# Altium schematic symbol library kmilo17pet-NSC_MiscPower.SchLib: 1552 symbols (part 20 of 43)
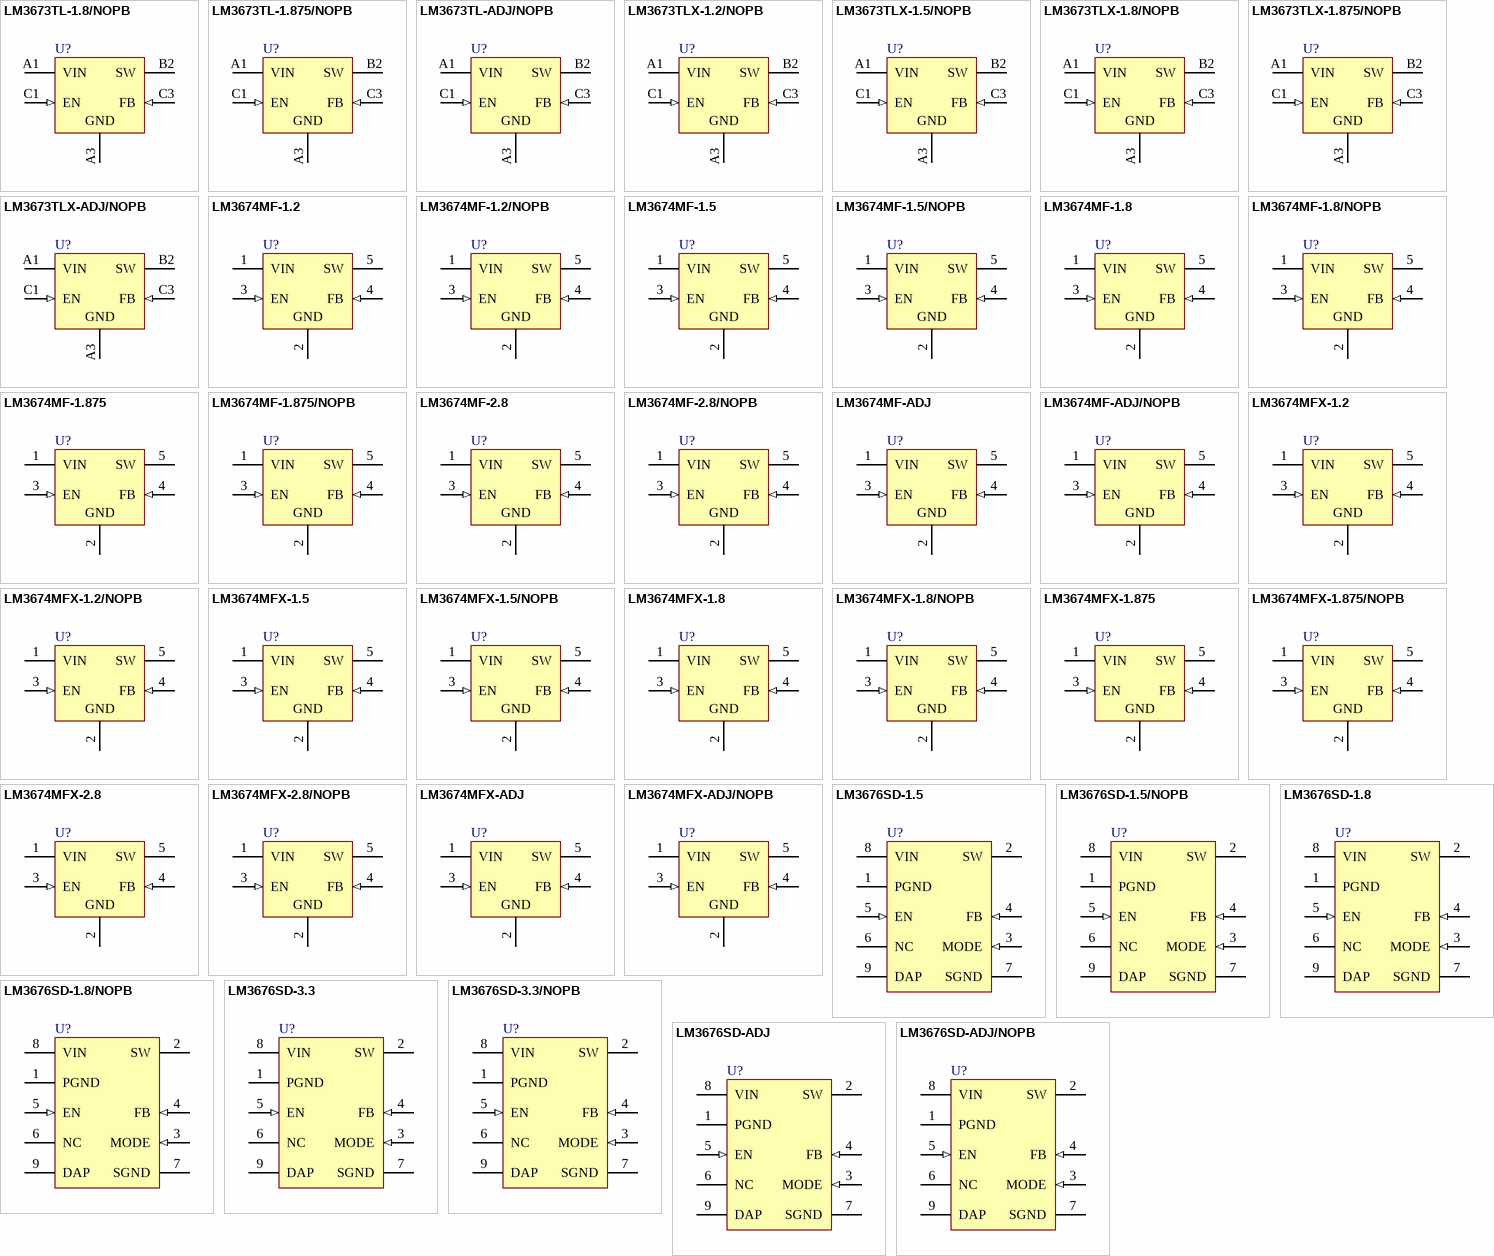
[diagram p76: symbols LM3673TL-1.8/NOPB to LM3676SD-ADJ/NOPB]

## LM3676SD-3.3/NOPB
designator U?
2MHz, 600mA Step-Down DC-DC Converter with Mode Control, 8-pin LLP, Pb-Free; PartNumber: LM3676SD-3.3/NOPB; Manufacturer: National Semiconductor; PackageTopMarking: ZXYTT*S010B; PowerWise: N; CompType: MiscPower; High-Reliability: Y; DatasheetVersion: Dec-2006; PackageVersion: revA, Aug-2003; PackageReference: SDA08A; PackageDescription: LLP, Plastic, Dual, 3 x 3 x 0.8mm Body, 8 Lead, 0.5mm Pitch, No Pullback; RoHS: Y; PinCount: 8; ComponentLink1Description: Manufacturer URL; ComponentLink1URL: http://www.national.com/; ComponentLink2Description: LM3676 Datasheet; ComponentLink2URL: http://www.national.com/ds/LM/LM3676.pdf; ComponentLink3Description: LM3676 Web Page; ComponentLink3URL: http://www.national.com/pf/LM/LM3676.html; ComponentLink4Description: SDA08A Package Page; ComponentLink4URL: http://www.national.com/packaging/folders/sda08a.html
footprint SDA08A (SON, 8-Leads, Body 3x3mm, Pitch 0.5mm, NSC Recommended)
pins: 1 PGND (power), 2 SW (power), 3 MODE (in), 4 FB (in), 5 EN (in), 6 NC, 7 SGND (power), 8 VIN (power), 9 DAP (power)

## LM3676SD-ADJ
designator U?
2MHz, 600mA Step-Down DC-DC Converter with Mode Control, 8-pin LLP; PartNumber: LM3676SD-ADJ; Manufacturer: National Semiconductor; PackageTopMarking: ZXYTT*S008B; PowerWise: N; CompType: MiscPower; High-Reliability: Y; DatasheetVersion: Dec-2006; PackageVersion: revA, Aug-2003; PackageReference: SDA08A; PackageDescription: LLP, Plastic, Dual, 3 x 3 x 0.8mm Body, 8 Lead, 0.5mm Pitch, No Pullback; RoHS: N; PinCount: 8; ComponentLink1Description: Manufacturer URL; ComponentLink1URL: http://www.national.com/; ComponentLink2Description: LM3676 Datasheet; ComponentLink2URL: http://www.national.com/ds/LM/LM3676.pdf; ComponentLink3Description: LM3676 Web Page; ComponentLink3URL: http://www.national.com/pf/LM/LM3676.html; ComponentLink4Description: SDA08A Package Page; ComponentLink4URL: http://www.national.com/packaging/folders/sda08a.html
footprint SDA08A (SON, 8-Leads, Body 3x3mm, Pitch 0.5mm, NSC Recommended)
pins: 1 PGND (power), 2 SW (power), 3 MODE (in), 4 FB (in), 5 EN (in), 6 NC, 7 SGND (power), 8 VIN (power), 9 DAP (power)

## LM3676SD-ADJ/NOPB
designator U?
2MHz, 600mA Step-Down DC-DC Converter with Mode Control, 8-pin LLP, Pb-Free; PartNumber: LM3676SD-ADJ/NOPB; Manufacturer: National Semiconductor; PackageTopMarking: ZXYTT*S008B; PowerWise: N; CompType: MiscPower; High-Reliability: Y; DatasheetVersion: Dec-2006; PackageVersion: revA, Aug-2003; PackageReference: SDA08A; PackageDescription: LLP, Plastic, Dual, 3 x 3 x 0.8mm Body, 8 Lead, 0.5mm Pitch, No Pullback; RoHS: Y; PinCount: 8; ComponentLink1Description: Manufacturer URL; ComponentLink1URL: http://www.national.com/; ComponentLink2Description: LM3676 Datasheet; ComponentLink2URL: http://www.national.com/ds/LM/LM3676.pdf; ComponentLink3Description: LM3676 Web Page; ComponentLink3URL: http://www.national.com/pf/LM/LM3676.html; ComponentLink4Description: SDA08A Package Page; ComponentLink4URL: http://www.national.com/packaging/folders/sda08a.html
footprint SDA08A (SON, 8-Leads, Body 3x3mm, Pitch 0.5mm, NSC Recommended)
pins: 1 PGND (power), 2 SW (power), 3 MODE (in), 4 FB (in), 5 EN (in), 6 NC, 7 SGND (power), 8 VIN (power), 9 DAP (power)

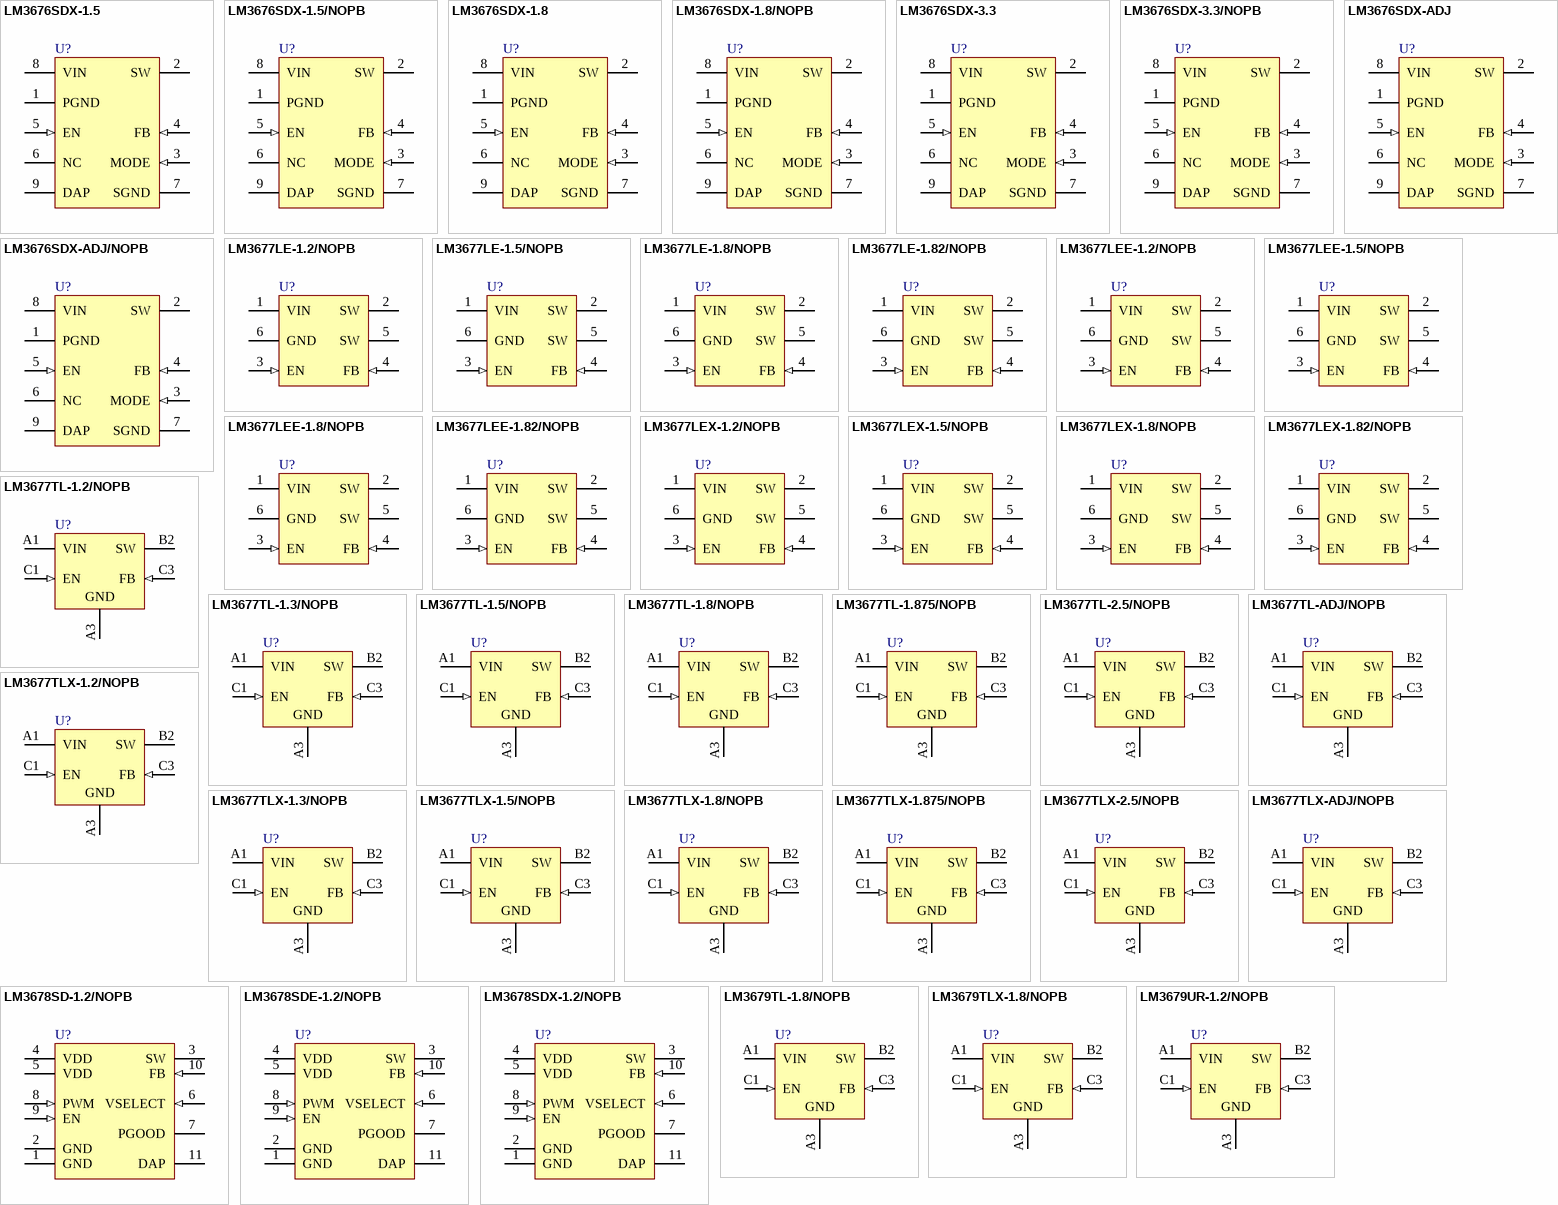
[diagram p22: symbols LM3676SDX-1.5 to LM3679UR-1.2/NOPB]

## LM3676SDX-1.5
designator U?
2MHz, 600mA Step-Down DC-DC Converter with Mode Control, 8-pin LLP; PartNumber: LM3676SDX-1.5; Manufacturer: National Semiconductor; PackageTopMarking: ZXYTT*S007B; PowerWise: N; CompType: MiscPower; High-Reliability: Y; DatasheetVersion: Dec-2006; PackageVersion: revA, Aug-2003; PackageReference: SDA08A; PackageDescription: LLP, Plastic, Dual, 3 x 3 x 0.8mm Body, 8 Lead, 0.5mm Pitch, No Pullback; RoHS: N; PinCount: 8; ComponentLink1Description: Manufacturer URL; ComponentLink1URL: http://www.national.com/; ComponentLink2Description: LM3676 Datasheet; ComponentLink2URL: http://www.national.com/ds/LM/LM3676.pdf; ComponentLink3Description: LM3676 Web Page; ComponentLink3URL: http://www.national.com/pf/LM/LM3676.html; ComponentLink4Description: SDA08A Package Page; ComponentLink4URL: http://www.national.com/packaging/folders/sda08a.html
footprint SDA08A (SON, 8-Leads, Body 3x3mm, Pitch 0.5mm, NSC Recommended)
pins: 1 PGND (power), 2 SW (power), 3 MODE (in), 4 FB (in), 5 EN (in), 6 NC, 7 SGND (power), 8 VIN (power), 9 DAP (power)

## LM3676SDX-1.5/NOPB
designator U?
2MHz, 600mA Step-Down DC-DC Converter with Mode Control, 8-pin LLP, Pb-Free; PartNumber: LM3676SDX-1.5/NOPB; Manufacturer: National Semiconductor; PackageTopMarking: ZXYTT*S007B; PowerWise: N; CompType: MiscPower; High-Reliability: Y; DatasheetVersion: Dec-2006; PackageVersion: revA, Aug-2003; PackageReference: SDA08A; PackageDescription: LLP, Plastic, Dual, 3 x 3 x 0.8mm Body, 8 Lead, 0.5mm Pitch, No Pullback; RoHS: Y; PinCount: 8; ComponentLink1Description: Manufacturer URL; ComponentLink1URL: http://www.national.com/; ComponentLink2Description: LM3676 Datasheet; ComponentLink2URL: http://www.national.com/ds/LM/LM3676.pdf; ComponentLink3Description: LM3676 Web Page; ComponentLink3URL: http://www.national.com/pf/LM/LM3676.html; ComponentLink4Description: SDA08A Package Page; ComponentLink4URL: http://www.national.com/packaging/folders/sda08a.html
footprint SDA08A (SON, 8-Leads, Body 3x3mm, Pitch 0.5mm, NSC Recommended)
pins: 1 PGND (power), 2 SW (power), 3 MODE (in), 4 FB (in), 5 EN (in), 6 NC, 7 SGND (power), 8 VIN (power), 9 DAP (power)

## LM3676SDX-1.8
designator U?
2MHz, 600mA Step-Down DC-DC Converter with Mode Control, 8-pin LLP; PartNumber: LM3676SDX-1.8; Manufacturer: National Semiconductor; PackageTopMarking: ZXYTT*S009B; PowerWise: N; CompType: MiscPower; High-Reliability: Y; DatasheetVersion: Dec-2006; PackageVersion: revA, Aug-2003; PackageReference: SDA08A; PackageDescription: LLP, Plastic, Dual, 3 x 3 x 0.8mm Body, 8 Lead, 0.5mm Pitch, No Pullback; RoHS: N; PinCount: 8; ComponentLink1Description: Manufacturer URL; ComponentLink1URL: http://www.national.com/; ComponentLink2Description: LM3676 Datasheet; ComponentLink2URL: http://www.national.com/ds/LM/LM3676.pdf; ComponentLink3Description: LM3676 Web Page; ComponentLink3URL: http://www.national.com/pf/LM/LM3676.html; ComponentLink4Description: SDA08A Package Page; ComponentLink4URL: http://www.national.com/packaging/folders/sda08a.html
footprint SDA08A (SON, 8-Leads, Body 3x3mm, Pitch 0.5mm, NSC Recommended)
pins: 1 PGND (power), 2 SW (power), 3 MODE (in), 4 FB (in), 5 EN (in), 6 NC, 7 SGND (power), 8 VIN (power), 9 DAP (power)

## LM3676SDX-1.8/NOPB
designator U?
2MHz, 600mA Step-Down DC-DC Converter with Mode Control, 8-pin LLP, Pb-Free; PartNumber: LM3676SDX-1.8/NOPB; Manufacturer: National Semiconductor; PackageTopMarking: ZXYTT*S009B; PowerWise: N; CompType: MiscPower; High-Reliability: Y; DatasheetVersion: Dec-2006; PackageVersion: revA, Aug-2003; PackageReference: SDA08A; PackageDescription: LLP, Plastic, Dual, 3 x 3 x 0.8mm Body, 8 Lead, 0.5mm Pitch, No Pullback; RoHS: Y; PinCount: 8; ComponentLink1Description: Manufacturer URL; ComponentLink1URL: http://www.national.com/; ComponentLink2Description: LM3676 Datasheet; ComponentLink2URL: http://www.national.com/ds/LM/LM3676.pdf; ComponentLink3Description: LM3676 Web Page; ComponentLink3URL: http://www.national.com/pf/LM/LM3676.html; ComponentLink4Description: SDA08A Package Page; ComponentLink4URL: http://www.national.com/packaging/folders/sda08a.html
footprint SDA08A (SON, 8-Leads, Body 3x3mm, Pitch 0.5mm, NSC Recommended)
pins: 1 PGND (power), 2 SW (power), 3 MODE (in), 4 FB (in), 5 EN (in), 6 NC, 7 SGND (power), 8 VIN (power), 9 DAP (power)

## LM3676SDX-3.3
designator U?
2MHz, 600mA Step-Down DC-DC Converter with Mode Control, 8-pin LLP; PartNumber: LM3676SDX-3.3; Manufacturer: National Semiconductor; PackageTopMarking: ZXYTT*S010B; PowerWise: N; CompType: MiscPower; High-Reliability: Y; DatasheetVersion: Dec-2006; PackageVersion: revA, Aug-2003; PackageReference: SDA08A; PackageDescription: LLP, Plastic, Dual, 3 x 3 x 0.8mm Body, 8 Lead, 0.5mm Pitch, No Pullback; RoHS: N; PinCount: 8; ComponentLink1Description: Manufacturer URL; ComponentLink1URL: http://www.national.com/; ComponentLink2Description: LM3676 Datasheet; ComponentLink2URL: http://www.national.com/ds/LM/LM3676.pdf; ComponentLink3Description: LM3676 Web Page; ComponentLink3URL: http://www.national.com/pf/LM/LM3676.html; ComponentLink4Description: SDA08A Package Page; ComponentLink4URL: http://www.national.com/packaging/folders/sda08a.html
footprint SDA08A (SON, 8-Leads, Body 3x3mm, Pitch 0.5mm, NSC Recommended)
pins: 1 PGND (power), 2 SW (power), 3 MODE (in), 4 FB (in), 5 EN (in), 6 NC, 7 SGND (power), 8 VIN (power), 9 DAP (power)

## LM3676SDX-3.3/NOPB
designator U?
2MHz, 600mA Step-Down DC-DC Converter with Mode Control, 8-pin LLP, Pb-Free; PartNumber: LM3676SDX-3.3/NOPB; Manufacturer: National Semiconductor; PackageTopMarking: ZXYTT*S010B; PowerWise: N; CompType: MiscPower; High-Reliability: Y; DatasheetVersion: Dec-2006; PackageVersion: revA, Aug-2003; PackageReference: SDA08A; PackageDescription: LLP, Plastic, Dual, 3 x 3 x 0.8mm Body, 8 Lead, 0.5mm Pitch, No Pullback; RoHS: Y; PinCount: 8; ComponentLink1Description: Manufacturer URL; ComponentLink1URL: http://www.national.com/; ComponentLink2Description: LM3676 Datasheet; ComponentLink2URL: http://www.national.com/ds/LM/LM3676.pdf; ComponentLink3Description: LM3676 Web Page; ComponentLink3URL: http://www.national.com/pf/LM/LM3676.html; ComponentLink4Description: SDA08A Package Page; ComponentLink4URL: http://www.national.com/packaging/folders/sda08a.html
footprint SDA08A (SON, 8-Leads, Body 3x3mm, Pitch 0.5mm, NSC Recommended)
pins: 1 PGND (power), 2 SW (power), 3 MODE (in), 4 FB (in), 5 EN (in), 6 NC, 7 SGND (power), 8 VIN (power), 9 DAP (power)

## LM3676SDX-ADJ
designator U?
2MHz, 600mA Step-Down DC-DC Converter with Mode Control, 8-pin LLP; PartNumber: LM3676SDX-ADJ; Manufacturer: National Semiconductor; PackageTopMarking: ZXYTT*S008B; PowerWise: N; CompType: MiscPower; High-Reliability: Y; DatasheetVersion: Dec-2006; PackageVersion: revA, Aug-2003; PackageReference: SDA08A; PackageDescription: LLP, Plastic, Dual, 3 x 3 x 0.8mm Body, 8 Lead, 0.5mm Pitch, No Pullback; RoHS: N; PinCount: 8; ComponentLink1Description: Manufacturer URL; ComponentLink1URL: http://www.national.com/; ComponentLink2Description: LM3676 Datasheet; ComponentLink2URL: http://www.national.com/ds/LM/LM3676.pdf; ComponentLink3Description: LM3676 Web Page; ComponentLink3URL: http://www.national.com/pf/LM/LM3676.html; ComponentLink4Description: SDA08A Package Page; ComponentLink4URL: http://www.national.com/packaging/folders/sda08a.html
footprint SDA08A (SON, 8-Leads, Body 3x3mm, Pitch 0.5mm, NSC Recommended)
pins: 1 PGND (power), 2 SW (power), 3 MODE (in), 4 FB (in), 5 EN (in), 6 NC, 7 SGND (power), 8 VIN (power), 9 DAP (power)

## LM3676SDX-ADJ/NOPB
designator U?
2MHz, 600mA Step-Down DC-DC Converter with Mode Control, 8-pin LLP, Pb-Free; PartNumber: LM3676SDX-ADJ/NOPB; Manufacturer: National Semiconductor; PackageTopMarking: ZXYTT*S008B; PowerWise: N; CompType: MiscPower; High-Reliability: Y; DatasheetVersion: Dec-2006; PackageVersion: revA, Aug-2003; PackageReference: SDA08A; PackageDescription: LLP, Plastic, Dual, 3 x 3 x 0.8mm Body, 8 Lead, 0.5mm Pitch, No Pullback; RoHS: Y; PinCount: 8; ComponentLink1Description: Manufacturer URL; ComponentLink1URL: http://www.national.com/; ComponentLink2Description: LM3676 Datasheet; ComponentLink2URL: http://www.national.com/ds/LM/LM3676.pdf; ComponentLink3Description: LM3676 Web Page; ComponentLink3URL: http://www.national.com/pf/LM/LM3676.html; ComponentLink4Description: SDA08A Package Page; ComponentLink4URL: http://www.national.com/packaging/folders/sda08a.html
footprint SDA08A (SON, 8-Leads, Body 3x3mm, Pitch 0.5mm, NSC Recommended)
pins: 1 PGND (power), 2 SW (power), 3 MODE (in), 4 FB (in), 5 EN (in), 6 NC, 7 SGND (power), 8 VIN (power), 9 DAP (power)

## LM3677LE-1.2/NOPB
designator U?
3MHz, 600mA Miniature Step-Down DC-DC Converter for Ultra Low Voltage Circuits, 6-pin LLP, Pb-Free; PartNumber: LM3677LE-1.2/NOPB; Manufacturer: National Semiconductor; PackageTopMarking: XVK; PowerWise: N; CompType: MiscPower; High-Reliability: Y; DatasheetVersion: Feb-2008; PackageVersion: revB, Apr-2008; PackageReference: LEB06A; PackageDescription: LLP, 2 x 1.5 x 0.6mm, 6 Lead, 0.5mm Pitch, No Pullback; RoHS: Y; PinCount: 6; ComponentLink1Description: Manufacturer URL; ComponentLink1URL: http://www.national.com/; ComponentLink2Description: LM3677 Datasheet; ComponentLink2URL: http://www.national.com/ds/LM/LM3677.pdf; ComponentLink3Description: LM3677 Web Page; ComponentLink3URL: http://www.national.com/pf/LM/LM3677.html; ComponentLink4Description: LEB06A Package Page; ComponentLink4URL: http://www.national.com/packaging/folders/leb06a.html
footprint LEB06A (SON, 6-Leads, Body 2x1.5mm, Pitch 0.5mm, NSC Recommended)
pins: 1 VIN (power), 2 SW (power), 3 EN (in), 4 FB (in), 5 SW (power), 6 GND (power)

## LM3677LE-1.5/NOPB
designator U?
3MHz, 600mA Miniature Step-Down DC-DC Converter for Ultra Low Voltage Circuits, 6-pin LLP, Pb-Free; PartNumber: LM3677LE-1.5/NOPB; Manufacturer: National Semiconductor; PackageTopMarking: XVL; PowerWise: N; CompType: MiscPower; High-Reliability: Y; DatasheetVersion: Oct-2008; PackageVersion: revB, Apr-2008; PackageReference: LEB06A; PackageDescription: LLP, 2 x 1.5 x 0.6mm, 6 Lead, 0.5mm Pitch, No Pullback; RoHS: Y; PinCount: 6; ComponentLink1Description: Manufacturer URL; ComponentLink1URL: http://www.national.com/; ComponentLink2Description: LM3677 Datasheet; ComponentLink2URL: http://www.national.com/ds/LM/LM3677.pdf; ComponentLink3Description: LM3677 Web Page; ComponentLink3URL: http://www.national.com/pf/LM/LM3677.html; ComponentLink4Description: LEB06A Package Page; ComponentLink4URL: http://www.national.com/packaging/folders/leb06a.html
footprint LEB06A (SON, 6-Leads, Body 2x1.5mm, Pitch 0.5mm, NSC Recommended)
pins: 1 VIN (power), 2 SW (power), 3 EN (in), 4 FB (in), 5 SW (power), 6 GND (power)

## LM3677LE-1.8/NOPB
designator U?
3MHz, 600mA Miniature Step-Down DC-DC Converter for Ultra Low Voltage Circuits, 6-pin LLP, Pb-Free; PartNumber: LM3677LE-1.8/NOPB; Manufacturer: National Semiconductor; PackageTopMarking: XVN; PowerWise: Y; CompType: MiscPower; DatasheetVersion: Oct-2008; PackageVersion: revB, Apr-2008; PackageReference: LEB06A; PackageDescription: LLP, 2 x 1.5 x 0.6mm, 6 Lead, 0.5mm Pitch, No Pullback; RoHS: Y; PinCount: 6; High-Reliability: Y; ComponentLink1Description: Manufacturer URL; ComponentLink1URL: http://www.national.com/; ComponentLink2Description: LM3677 Datasheet; ComponentLink2URL: http://www.national.com/ds/LM/LM3677.pdf; ComponentLink3Description: LM3677 Web Page; ComponentLink3URL: http://www.national.com/pf/LM/LM3677.html; ComponentLink4Description: LEB06A Package Page; ComponentLink4URL: http://www.national.com/packaging/folders/leb06a.html
footprint LEB06A (SON, 6-Leads, Body 2x1.5mm, Pitch 0.5mm, NSC Recommended)
pins: 1 VIN (power), 2 SW (power), 3 EN (in), 4 FB (in), 5 SW (power), 6 GND (power)

## LM3677LE-1.82/NOPB
designator U?
3MHz, 600mA Miniature Step-Down DC-DC Converter for Ultra Low Voltage Circuits, 6-pin LLP, Pb-Free; PartNumber: LM3677LE-1.82/NOPB; Manufacturer: National Semiconductor; PackageTopMarking: XV5; PowerWise: N; CompType: MiscPower; High-Reliability: Y; DatasheetVersion: Oct-2008; PackageVersion: revB, Apr-2008; PackageReference: LEB06A; PackageDescription: LLP, 2 x 1.5 x 0.6mm, 6 Lead, 0.5mm Pitch, No Pullback; RoHS: Y; PinCount: 6; ComponentLink1Description: Manufacturer URL; ComponentLink1URL: http://www.national.com/; ComponentLink2Description: LM3677 Datasheet; ComponentLink2URL: http://www.national.com/ds/LM/LM3677.pdf; ComponentLink3Description: LM3677 Web Page; ComponentLink3URL: http://www.national.com/pf/LM/LM3677.html; ComponentLink4Description: LEB06A Package Page; ComponentLink4URL: http://www.national.com/packaging/folders/leb06a.html
footprint LEB06A (SON, 6-Leads, Body 2x1.5mm, Pitch 0.5mm, NSC Recommended)
pins: 1 VIN (power), 2 SW (power), 3 EN (in), 4 FB (in), 5 SW (power), 6 GND (power)

## LM3677LEE-1.2/NOPB
designator U?
3MHz, 600mA Miniature Step-Down DC-DC Converter for Ultra Low Voltage Circuits, 6-pin LLP, Pb-Free; PartNumber: LM3677LEE-1.2/NOPB; Manufacturer: National Semiconductor; PackageTopMarking: XVK; PowerWise: N; CompType: MiscPower; High-Reliability: Y; DatasheetVersion: Feb-2008; PackageVersion: revB, Apr-2008; PackageReference: LEB06A; PackageDescription: LLP, 2 x 1.5 x 0.6mm, 6 Lead, 0.5mm Pitch, No Pullback; RoHS: Y; PinCount: 6; ComponentLink1Description: Manufacturer URL; ComponentLink1URL: http://www.national.com/; ComponentLink2Description: LM3677 Datasheet; ComponentLink2URL: http://www.national.com/ds/LM/LM3677.pdf; ComponentLink3Description: LM3677 Web Page; ComponentLink3URL: http://www.national.com/pf/LM/LM3677.html; ComponentLink4Description: LEB06A Package Page; ComponentLink4URL: http://www.national.com/packaging/folders/leb06a.html
footprint LEB06A (SON, 6-Leads, Body 2x1.5mm, Pitch 0.5mm, NSC Recommended)
pins: 1 VIN (power), 2 SW (power), 3 EN (in), 4 FB (in), 5 SW (power), 6 GND (power)

## LM3677LEE-1.5/NOPB
designator U?
3MHz, 600mA Miniature Step-Down DC-DC Converter for Ultra Low Voltage Circuits, 6-pin LLP, Pb-Free; PartNumber: LM3677LEE-1.5/NOPB; Manufacturer: National Semiconductor; PackageTopMarking: XVL; PowerWise: N; CompType: MiscPower; High-Reliability: Y; DatasheetVersion: Feb-2008; PackageVersion: revB, Apr-2008; PackageReference: LEB06A; PackageDescription: LLP, 2 x 1.5 x 0.6mm, 6 Lead, 0.5mm Pitch, No Pullback; RoHS: Y; PinCount: 6; ComponentLink1Description: Manufacturer URL; ComponentLink1URL: http://www.national.com/; ComponentLink2Description: LM3677 Datasheet; ComponentLink2URL: http://www.national.com/ds/LM/LM3677.pdf; ComponentLink3Description: LM3677 Web Page; ComponentLink3URL: http://www.national.com/pf/LM/LM3677.html; ComponentLink4Description: LEB06A Package Page; ComponentLink4URL: http://www.national.com/packaging/folders/leb06a.html
footprint LEB06A (SON, 6-Leads, Body 2x1.5mm, Pitch 0.5mm, NSC Recommended)
pins: 1 VIN (power), 2 SW (power), 3 EN (in), 4 FB (in), 5 SW (power), 6 GND (power)

## LM3677LEE-1.8/NOPB
designator U?
3MHz, 600mA Miniature Step-Down DC-DC Converter for Ultra Low Voltage Circuits, 6-pin LLP, Pb-Free; PartNumber: LM3677LEE-1.8/NOPB; Manufacturer: National Semiconductor; PackageTopMarking: XVN; PowerWise: N; CompType: MiscPower; High-Reliability: Y; DatasheetVersion: Feb-2008; PackageVersion: revB, Apr-2008; PackageReference: LEB06A; PackageDescription: LLP, 2 x 1.5 x 0.6mm, 6 Lead, 0.5mm Pitch, No Pullback; RoHS: Y; PinCount: 6; ComponentLink1Description: Manufacturer URL; ComponentLink1URL: http://www.national.com/; ComponentLink2Description: LM3677 Datasheet; ComponentLink2URL: http://www.national.com/ds/LM/LM3677.pdf; ComponentLink3Description: LM3677 Web Page; ComponentLink3URL: http://www.national.com/pf/LM/LM3677.html; ComponentLink4Description: LEB06A Package Page; ComponentLink4URL: http://www.national.com/packaging/folders/leb06a.html
footprint LEB06A (SON, 6-Leads, Body 2x1.5mm, Pitch 0.5mm, NSC Recommended)
pins: 1 VIN (power), 2 SW (power), 3 EN (in), 4 FB (in), 5 SW (power), 6 GND (power)

## LM3677LEE-1.82/NOPB
designator U?
3MHz, 600mA Miniature Step-Down DC-DC Converter for Ultra Low Voltage Circuits, 6-pin LLP, Pb-Free; PartNumber: LM3677LEE-1.82/NOPB; Manufacturer: National Semiconductor; PackageTopMarking: XV5; PowerWise: N; CompType: MiscPower; High-Reliability: Y; DatasheetVersion: Feb-2008; PackageVersion: revB, Apr-2008; PackageReference: LEB06A; PackageDescription: LLP, 2 x 1.5 x 0.6mm, 6 Lead, 0.5mm Pitch, No Pullback; RoHS: Y; PinCount: 6; ComponentLink1Description: Manufacturer URL; ComponentLink1URL: http://www.national.com/; ComponentLink2Description: LM3677 Datasheet; ComponentLink2URL: http://www.national.com/ds/LM/LM3677.pdf; ComponentLink3Description: LM3677 Web Page; ComponentLink3URL: http://www.national.com/pf/LM/LM3677.html; ComponentLink4Description: LEB06A Package Page; ComponentLink4URL: http://www.national.com/packaging/folders/leb06a.html
footprint LEB06A (SON, 6-Leads, Body 2x1.5mm, Pitch 0.5mm, NSC Recommended)
pins: 1 VIN (power), 2 SW (power), 3 EN (in), 4 FB (in), 5 SW (power), 6 GND (power)

## LM3677LEX-1.2/NOPB
designator U?
3MHz, 600mA Miniature Step-Down DC-DC Converter for Ultra Low Voltage Circuits, 6-pin LLP, Pb-Free; PartNumber: LM3677LEX-1.2/NOPB; Manufacturer: National Semiconductor; PackageTopMarking: XVK; PowerWise: N; CompType: MiscPower; High-Reliability: Y; DatasheetVersion: Feb-2008; PackageVersion: revB, Apr-2008; PackageReference: LEB06A; PackageDescription: LLP, 2 x 1.5 x 0.6mm, 6 Lead, 0.5mm Pitch, No Pullback; RoHS: Y; PinCount: 6; ComponentLink1Description: Manufacturer URL; ComponentLink1URL: http://www.national.com/; ComponentLink2Description: LM3677 Datasheet; ComponentLink2URL: http://www.national.com/ds/LM/LM3677.pdf; ComponentLink3Description: LM3677 Web Page; ComponentLink3URL: http://www.national.com/pf/LM/LM3677.html; ComponentLink4Description: LEB06A Package Page; ComponentLink4URL: http://www.national.com/packaging/folders/leb06a.html
footprint LEB06A (SON, 6-Leads, Body 2x1.5mm, Pitch 0.5mm, NSC Recommended)
pins: 1 VIN (power), 2 SW (power), 3 EN (in), 4 FB (in), 5 SW (power), 6 GND (power)

## LM3677LEX-1.5/NOPB
designator U?
3MHz, 600mA Miniature Step-Down DC-DC Converter for Ultra Low Voltage Circuits, 6-pin LLP, Pb-Free; PartNumber: LM3677LEX-1.5/NOPB; Manufacturer: National Semiconductor; PackageTopMarking: XVL; PowerWise: N; CompType: MiscPower; High-Reliability: Y; DatasheetVersion: Feb-2008; PackageVersion: revB, Apr-2008; PackageReference: LEB06A; PackageDescription: LLP, 2 x 1.5 x 0.6mm, 6 Lead, 0.5mm Pitch, No Pullback; RoHS: Y; PinCount: 6; ComponentLink1Description: Manufacturer URL; ComponentLink1URL: http://www.national.com/; ComponentLink2Description: LM3677 Datasheet; ComponentLink2URL: http://www.national.com/ds/LM/LM3677.pdf; ComponentLink3Description: LM3677 Web Page; ComponentLink3URL: http://www.national.com/pf/LM/LM3677.html; ComponentLink4Description: LEB06A Package Page; ComponentLink4URL: http://www.national.com/packaging/folders/leb06a.html
footprint LEB06A (SON, 6-Leads, Body 2x1.5mm, Pitch 0.5mm, NSC Recommended)
pins: 1 VIN (power), 2 SW (power), 3 EN (in), 4 FB (in), 5 SW (power), 6 GND (power)

## LM3677LEX-1.8/NOPB
designator U?
3MHz, 600mA Miniature Step-Down DC-DC Converter for Ultra Low Voltage Circuits, 6-pin LLP, Pb-Free; PartNumber: LM3677LEX-1.8/NOPB; Manufacturer: National Semiconductor; PackageTopMarking: XVN; PowerWise: Y; CompType: MiscPower; DatasheetVersion: Feb-2008; PackageVersion: revB, Apr-2008; PackageReference: LEB06A; PackageDescription: LLP, 2 x 1.5 x 0.6mm, 6 Lead, 0.5mm Pitch, No Pullback; RoHS: Y; PinCount: 6; High-Reliability: Y; ComponentLink1Description: Manufacturer URL; ComponentLink1URL: http://www.national.com/; ComponentLink2Description: LM3677 Datasheet; ComponentLink2URL: http://www.national.com/ds/LM/LM3677.pdf; ComponentLink3Description: LM3677 Web Page; ComponentLink3URL: http://www.national.com/pf/LM/LM3677.html; ComponentLink4Description: LEB06A Package Page; ComponentLink4URL: http://www.national.com/packaging/folders/leb06a.html
footprint LEB06A (SON, 6-Leads, Body 2x1.5mm, Pitch 0.5mm, NSC Recommended)
pins: 1 VIN (power), 2 SW (power), 3 EN (in), 4 FB (in), 5 SW (power), 6 GND (power)

## LM3677LEX-1.82/NOPB
designator U?
3MHz, 600mA Miniature Step-Down DC-DC Converter for Ultra Low Voltage Circuits, 6-pin LLP, Pb-Free; PartNumber: LM3677LEX-1.82/NOPB; Manufacturer: National Semiconductor; PackageTopMarking: XV5; PowerWise: N; CompType: MiscPower; High-Reliability: Y; DatasheetVersion: Feb-2008; PackageVersion: revB, Apr-2008; PackageReference: LEB06A; PackageDescription: LLP, 2 x 1.5 x 0.6mm, 6 Lead, 0.5mm Pitch, No Pullback; RoHS: Y; PinCount: 6; ComponentLink1Description: Manufacturer URL; ComponentLink1URL: http://www.national.com/; ComponentLink2Description: LM3677 Datasheet; ComponentLink2URL: http://www.national.com/ds/LM/LM3677.pdf; ComponentLink3Description: LM3677 Web Page; ComponentLink3URL: http://www.national.com/pf/LM/LM3677.html; ComponentLink4Description: LEB06A Package Page; ComponentLink4URL: http://www.national.com/packaging/folders/leb06a.html
footprint LEB06A (SON, 6-Leads, Body 2x1.5mm, Pitch 0.5mm, NSC Recommended)
pins: 1 VIN (power), 2 SW (power), 3 EN (in), 4 FB (in), 5 SW (power), 6 GND (power)

## LM3677TL-1.2/NOPB
designator U?
3MHz, 600mA Miniature Step-Down DC-DC Converter for Ultra Low Voltage Circuits, 5-pin Micro SMD, Pb-Free; PartNumber: LM3677TL-1.2/NOPB; Manufacturer: National Semiconductor; PackageTopMarking: XV*I 3; PowerWise: N; CompType: MiscPower; High-Reliability: Y; DatasheetVersion: Oct-2008; PackageVersion: revC, Feb-2005; PackageReference: TLA05EFA; PackageDescription: Thin Micro SMD, 5 Bump (Large), 0.5mm Pitch; RoHS: Y; PinCount: 5; ComponentLink1Description: Manufacturer URL; ComponentLink1URL: http://www.national.com/; ComponentLink2Description: LM3677 Datasheet; ComponentLink2URL: http://www.national.com/ds/LM/LM3677.pdf; ComponentLink3Description: LM3677 Web Page; ComponentLink3URL: http://www.national.com/pf/LM/LM3677.html; ComponentLink4Description: TLA05EFA Package Page; ComponentLink4URL: http://www.national.com/packaging/folders/tla05efa.html
footprint TLA05EFA (Micro SMD, 5-Leads, Body 1.49x1.11mm, Pitch 0.5mm, NSC Recommended)
pins: A1 VIN (power), A3 GND (power), B2 SW (power), C1 EN (in), C3 FB (in)

## LM3677TL-1.3/NOPB
designator U?
3MHz, 600mA Miniature Step-Down DC-DC Converter for Ultra Low Voltage Circuits, 5-pin Micro SMD, Pb-Free; PartNumber: LM3677TL-1.3/NOPB; Manufacturer: National Semiconductor; PackageTopMarking: XV*I V; PowerWise: Y; CompType: MiscPower; DatasheetVersion: Oct-2008; PackageVersion: revC, Feb-2005; PackageReference: TLA05EFA; PackageDescription: Thin Micro SMD, 5 Bump (Large), 0.5mm Pitch; RoHS: Y; PinCount: 5; High-Reliability: Y; ComponentLink1Description: Manufacturer URL; ComponentLink1URL: http://www.national.com/; ComponentLink2Description: LM3677 Datasheet; ComponentLink2URL: http://www.national.com/ds/LM/LM3677.pdf; ComponentLink3Description: LM3677 Web Page; ComponentLink3URL: http://www.national.com/pf/LM/LM3677.html; ComponentLink4Description: TLA05EFA Package Page; ComponentLink4URL: http://www.national.com/packaging/folders/tla05efa.html
footprint TLA05EFA (Micro SMD, 5-Leads, Body 1.49x1.11mm, Pitch 0.5mm, NSC Recommended)
pins: A1 VIN (power), A3 GND (power), B2 SW (power), C1 EN (in), C3 FB (in)

## LM3677TL-1.5/NOPB
designator U?
3MHz, 600mA Miniature Step-Down DC-DC Converter for Ultra Low Voltage Circuits, 5-pin Micro SMD, Pb-Free; PartNumber: LM3677TL-1.5/NOPB; Manufacturer: National Semiconductor; PackageTopMarking: XV*I X; PowerWise: Y; CompType: MiscPower; DatasheetVersion: Oct-2008; PackageVersion: revC, Feb-2005; PackageReference: TLA05EFA; PackageDescription: Thin Micro SMD, 5 Bump (Large), 0.5mm Pitch; RoHS: Y; PinCount: 5; High-Reliability: Y; ComponentLink1Description: Manufacturer URL; ComponentLink1URL: http://www.national.com/; ComponentLink2Description: LM3677 Datasheet; ComponentLink2URL: http://www.national.com/ds/LM/LM3677.pdf; ComponentLink3Description: LM3677 Web Page; ComponentLink3URL: http://www.national.com/pf/LM/LM3677.html; ComponentLink4Description: TLA05EFA Package Page; ComponentLink4URL: http://www.national.com/packaging/folders/tla05efa.html
footprint TLA05EFA (Micro SMD, 5-Leads, Body 1.49x1.11mm, Pitch 0.5mm, NSC Recommended)
pins: A1 VIN (power), A3 GND (power), B2 SW (power), C1 EN (in), C3 FB (in)

## LM3677TL-1.8/NOPB
designator U?
3MHz, 600mA Miniature Step-Down DC-DC Converter for Ultra Low Voltage Circuits, 5-pin Micro SMD, Pb-Free; PartNumber: LM3677TL-1.8/NOPB; Manufacturer: National Semiconductor; PackageTopMarking: XV*I Y; PowerWise: Y; CompType: MiscPower; DatasheetVersion: Oct-2008; PackageVersion: revC, Feb-2005; PackageReference: TLA05EFA; PackageDescription: Thin Micro SMD, 5 Bump (Large), 0.5mm Pitch; RoHS: Y; PinCount: 5; High-Reliability: Y; ComponentLink1Description: Manufacturer URL; ComponentLink1URL: http://www.national.com/; ComponentLink2Description: LM3677 Datasheet; ComponentLink2URL: http://www.national.com/ds/LM/LM3677.pdf; ComponentLink3Description: LM3677 Web Page; ComponentLink3URL: http://www.national.com/pf/LM/LM3677.html; ComponentLink4Description: TLA05EFA Package Page; ComponentLink4URL: http://www.national.com/packaging/folders/tla05efa.html
footprint TLA05EFA (Micro SMD, 5-Leads, Body 1.49x1.11mm, Pitch 0.5mm, NSC Recommended)
pins: A1 VIN (power), A3 GND (power), B2 SW (power), C1 EN (in), C3 FB (in)

## LM3677TL-1.875/NOPB
designator U?
3MHz, 600mA Miniature Step-Down DC-DC Converter for Ultra Low Voltage Circuits, 5-pin Micro SMD, Pb-Free; PartNumber: LM3677TL-1.875/NOPB; Manufacturer: National Semiconductor; PackageTopMarking: XV*I 9; PowerWise: N; CompType: MiscPower; High-Reliability: Y; DatasheetVersion: Oct-2008; PackageVersion: revC, Feb-2005; PackageReference: TLA05EFA; PackageDescription: Thin Micro SMD, 5 Bump (Large), 0.5mm Pitch; RoHS: Y; PinCount: 5; ComponentLink1Description: Manufacturer URL; ComponentLink1URL: http://www.national.com/; ComponentLink2Description: LM3677 Datasheet; ComponentLink2URL: http://www.national.com/ds/LM/LM3677.pdf; ComponentLink3Description: LM3677 Web Page; ComponentLink3URL: http://www.national.com/pf/LM/LM3677.html; ComponentLink4Description: TLA05EFA Package Page; ComponentLink4URL: http://www.national.com/packaging/folders/tla05efa.html
footprint TLA05EFA (Micro SMD, 5-Leads, Body 1.49x1.11mm, Pitch 0.5mm, NSC Recommended)
pins: A1 VIN (power), A3 GND (power), B2 SW (power), C1 EN (in), C3 FB (in)

## LM3677TL-2.5/NOPB
designator U?
3MHz, 600mA Miniature Step-Down DC-DC Converter for Ultra Low Voltage Circuits, 5-pin Micro SMD, Pb-Free; PartNumber: LM3677TL-2.5/NOPB; Manufacturer: National Semiconductor; PackageTopMarking: XV*I Z; PowerWise: Y; CompType: MiscPower; DatasheetVersion: Oct-2008; PackageVersion: revC, Feb-2005; PackageReference: TLA05EFA; PackageDescription: Thin Micro SMD, 5 Bump (Large), 0.5mm Pitch; RoHS: Y; PinCount: 5; High-Reliability: Y; ComponentLink1Description: Manufacturer URL; ComponentLink1URL: http://www.national.com/; ComponentLink2Description: LM3677 Datasheet; ComponentLink2URL: http://www.national.com/ds/LM/LM3677.pdf; ComponentLink3Description: LM3677 Web Page; ComponentLink3URL: http://www.national.com/pf/LM/LM3677.html; ComponentLink4Description: TLA05EFA Package Page; ComponentLink4URL: http://www.national.com/packaging/folders/tla05efa.html
footprint TLA05EFA (Micro SMD, 5-Leads, Body 1.49x1.11mm, Pitch 0.5mm, NSC Recommended)
pins: A1 VIN (power), A3 GND (power), B2 SW (power), C1 EN (in), C3 FB (in)

## LM3677TL-ADJ/NOPB
designator U?
3MHz, 600mA Miniature Step-Down DC-DC Converter for Ultra Low Voltage Circuits, 5-pin Micro SMD, Pb-Free; PartNumber: LM3677TL-ADJ/NOPB; Manufacturer: National Semiconductor; PackageTopMarking: XV*I 4; PowerWise: N; CompType: MiscPower; High-Reliability: Y; DatasheetVersion: Oct-2008; PackageVersion: revC, Feb-2005; PackageReference: TLA05EFA; PackageDescription: Thin Micro SMD, 5 Bump (Large), 0.5mm Pitch; RoHS: Y; PinCount: 5; ComponentLink1Description: Manufacturer URL; ComponentLink1URL: http://www.national.com/; ComponentLink2Description: LM3677 Datasheet; ComponentLink2URL: http://www.national.com/ds/LM/LM3677.pdf; ComponentLink3Description: LM3677 Web Page; ComponentLink3URL: http://www.national.com/pf/LM/LM3677.html; ComponentLink4Description: TLA05EFA Package Page; ComponentLink4URL: http://www.national.com/packaging/folders/tla05efa.html
footprint TLA05EFA (Micro SMD, 5-Leads, Body 1.49x1.11mm, Pitch 0.5mm, NSC Recommended)
pins: A1 VIN (power), A3 GND (power), B2 SW (power), C1 EN (in), C3 FB (in)

## LM3677TLX-1.2/NOPB
designator U?
3MHz, 600mA Miniature Step-Down DC-DC Converter for Ultra Low Voltage Circuits, 5-pin Micro SMD, Pb-Free; PartNumber: LM3677TLX-1.2/NOPB; Manufacturer: National Semiconductor; PackageTopMarking: XV*I 3; PowerWise: N; CompType: MiscPower; High-Reliability: Y; DatasheetVersion: Feb-2008; PackageVersion: revC, Feb-2005; PackageReference: TLA05EFA; PackageDescription: Thin Micro SMD, 5 Bump (Large), 0.5mm Pitch; RoHS: Y; PinCount: 5; ComponentLink1Description: Manufacturer URL; ComponentLink1URL: http://www.national.com/; ComponentLink2Description: LM3677 Datasheet; ComponentLink2URL: http://www.national.com/ds/LM/LM3677.pdf; ComponentLink3Description: LM3677 Web Page; ComponentLink3URL: http://www.national.com/pf/LM/LM3677.html; ComponentLink4Description: TLA05EFA Package Page; ComponentLink4URL: http://www.national.com/packaging/folders/tla05efa.html
footprint TLA05EFA (Micro SMD, 5-Leads, Body 1.49x1.11mm, Pitch 0.5mm, NSC Recommended)
pins: A1 VIN (power), A3 GND (power), B2 SW (power), C1 EN (in), C3 FB (in)

## LM3677TLX-1.3/NOPB
designator U?
3MHz, 600mA Miniature Step-Down DC-DC Converter for Ultra Low Voltage Circuits, 5-pin Micro SMD, Pb-Free; PartNumber: LM3677TLX-1.3/NOPB; Manufacturer: National Semiconductor; PackageTopMarking: XV*I V; PowerWise: Y; CompType: MiscPower; DatasheetVersion: Feb-2008; PackageVersion: revC, Feb-2005; PackageReference: TLA05EFA; PackageDescription: Thin Micro SMD, 5 Bump (Large), 0.5mm Pitch; RoHS: Y; PinCount: 5; High-Reliability: Y; ComponentLink1Description: Manufacturer URL; ComponentLink1URL: http://www.national.com/; ComponentLink2Description: LM3677 Datasheet; ComponentLink2URL: http://www.national.com/ds/LM/LM3677.pdf; ComponentLink3Description: LM3677 Web Page; ComponentLink3URL: http://www.national.com/pf/LM/LM3677.html; ComponentLink4Description: TLA05EFA Package Page; ComponentLink4URL: http://www.national.com/packaging/folders/tla05efa.html
footprint TLA05EFA (Micro SMD, 5-Leads, Body 1.49x1.11mm, Pitch 0.5mm, NSC Recommended)
pins: A1 VIN (power), A3 GND (power), B2 SW (power), C1 EN (in), C3 FB (in)

## LM3677TLX-1.5/NOPB
designator U?
3MHz, 600mA Miniature Step-Down DC-DC Converter for Ultra Low Voltage Circuits, 5-pin Micro SMD, Pb-Free; PartNumber: LM3677TLX-1.5/NOPB; Manufacturer: National Semiconductor; PackageTopMarking: XV*I X; PowerWise: Y; CompType: MiscPower; DatasheetVersion: Feb-2008; PackageVersion: revC, Feb-2005; PackageReference: TLA05EFA; PackageDescription: Thin Micro SMD, 5 Bump (Large), 0.5mm Pitch; RoHS: Y; PinCount: 5; High-Reliability: Y; ComponentLink1Description: Manufacturer URL; ComponentLink1URL: http://www.national.com/; ComponentLink2Description: LM3677 Datasheet; ComponentLink2URL: http://www.national.com/ds/LM/LM3677.pdf; ComponentLink3Description: LM3677 Web Page; ComponentLink3URL: http://www.national.com/pf/LM/LM3677.html; ComponentLink4Description: TLA05EFA Package Page; ComponentLink4URL: http://www.national.com/packaging/folders/tla05efa.html
footprint TLA05EFA (Micro SMD, 5-Leads, Body 1.49x1.11mm, Pitch 0.5mm, NSC Recommended)
pins: A1 VIN (power), A3 GND (power), B2 SW (power), C1 EN (in), C3 FB (in)

## LM3677TLX-1.8/NOPB
designator U?
3MHz, 600mA Miniature Step-Down DC-DC Converter for Ultra Low Voltage Circuits, 5-pin Micro SMD, Pb-Free; PartNumber: LM3677TLX-1.8/NOPB; Manufacturer: National Semiconductor; PackageTopMarking: XV*I Y; PowerWise: Y; CompType: MiscPower; DatasheetVersion: Feb-2008; PackageVersion: revC, Feb-2005; PackageReference: TLA05EFA; PackageDescription: Thin Micro SMD, 5 Bump (Large), 0.5mm Pitch; RoHS: Y; PinCount: 5; High-Reliability: Y; ComponentLink1Description: Manufacturer URL; ComponentLink1URL: http://www.national.com/; ComponentLink2Description: LM3677 Datasheet; ComponentLink2URL: http://www.national.com/ds/LM/LM3677.pdf; ComponentLink3Description: LM3677 Web Page; ComponentLink3URL: http://www.national.com/pf/LM/LM3677.html; ComponentLink4Description: TLA05EFA Package Page; ComponentLink4URL: http://www.national.com/packaging/folders/tla05efa.html
footprint TLA05EFA (Micro SMD, 5-Leads, Body 1.49x1.11mm, Pitch 0.5mm, NSC Recommended)
pins: A1 VIN (power), A3 GND (power), B2 SW (power), C1 EN (in), C3 FB (in)

## LM3677TLX-1.875/NOPB
designator U?
3MHz, 600mA Miniature Step-Down DC-DC Converter for Ultra Low Voltage Circuits, 5-pin Micro SMD, Pb-Free; PartNumber: LM3677TLX-1.875/NOPB; Manufacturer: National Semiconductor; PackageTopMarking: XV*I 9; PowerWise: N; CompType: MiscPower; High-Reliability: Y; DatasheetVersion: Feb-2008; PackageVersion: revC, Feb-2005; PackageReference: TLA05EFA; PackageDescription: Thin Micro SMD, 5 Bump (Large), 0.5mm Pitch; RoHS: Y; PinCount: 5; ComponentLink1Description: Manufacturer URL; ComponentLink1URL: http://www.national.com/; ComponentLink2Description: LM3677 Datasheet; ComponentLink2URL: http://www.national.com/ds/LM/LM3677.pdf; ComponentLink3Description: LM3677 Web Page; ComponentLink3URL: http://www.national.com/pf/LM/LM3677.html; ComponentLink4Description: TLA05EFA Package Page; ComponentLink4URL: http://www.national.com/packaging/folders/tla05efa.html
footprint TLA05EFA (Micro SMD, 5-Leads, Body 1.49x1.11mm, Pitch 0.5mm, NSC Recommended)
pins: A1 VIN (power), A3 GND (power), B2 SW (power), C1 EN (in), C3 FB (in)

## LM3677TLX-2.5/NOPB
designator U?
3MHz, 600mA Miniature Step-Down DC-DC Converter for Ultra Low Voltage Circuits, 5-pin Micro SMD, Pb-Free; PartNumber: LM3677TLX-2.5/NOPB; Manufacturer: National Semiconductor; PackageTopMarking: XV*I Z; PowerWise: Y; CompType: MiscPower; DatasheetVersion: Feb-2008; PackageVersion: revC, Feb-2005; PackageReference: TLA05EFA; PackageDescription: Thin Micro SMD, 5 Bump (Large), 0.5mm Pitch; RoHS: Y; PinCount: 5; High-Reliability: Y; ComponentLink1Description: Manufacturer URL; ComponentLink1URL: http://www.national.com/; ComponentLink2Description: LM3677 Datasheet; ComponentLink2URL: http://www.national.com/ds/LM/LM3677.pdf; ComponentLink3Description: LM3677 Web Page; ComponentLink3URL: http://www.national.com/pf/LM/LM3677.html; ComponentLink4Description: TLA05EFA Package Page; ComponentLink4URL: http://www.national.com/packaging/folders/tla05efa.html
footprint TLA05EFA (Micro SMD, 5-Leads, Body 1.49x1.11mm, Pitch 0.5mm, NSC Recommended)
pins: A1 VIN (power), A3 GND (power), B2 SW (power), C1 EN (in), C3 FB (in)

## LM3677TLX-ADJ/NOPB
designator U?
3MHz, 600mA Miniature Step-Down DC-DC Converter for Ultra Low Voltage Circuits, 5-pin Micro SMD, Pb-Free; PartNumber: LM3677TLX-ADJ/NOPB; Manufacturer: National Semiconductor; PackageTopMarking: XV*I 4; PowerWise: N; CompType: MiscPower; High-Reliability: Y; DatasheetVersion: Feb-2008; PackageVersion: revC, Feb-2005; PackageReference: TLA05EFA; PackageDescription: Thin Micro SMD, 5 Bump (Large), 0.5mm Pitch; RoHS: Y; PinCount: 5; ComponentLink1Description: Manufacturer URL; ComponentLink1URL: http://www.national.com/; ComponentLink2Description: LM3677 Datasheet; ComponentLink2URL: http://www.national.com/ds/LM/LM3677.pdf; ComponentLink3Description: LM3677 Web Page; ComponentLink3URL: http://www.national.com/pf/LM/LM3677.html; ComponentLink4Description: TLA05EFA Package Page; ComponentLink4URL: http://www.national.com/packaging/folders/tla05efa.html
footprint TLA05EFA (Micro SMD, 5-Leads, Body 1.49x1.11mm, Pitch 0.5mm, NSC Recommended)
pins: A1 VIN (power), A3 GND (power), B2 SW (power), C1 EN (in), C3 FB (in)

## LM3678SD-1.2/NOPB
designator U?
High-Performance, Miniature 1.5A Step-Down DC-DC Converter for Handheld Applications, 10-pin LLP, Pb-Free; PartNumber: LM3678SD-1.2/NOPB; Manufacturer: National Semiconductor; PackageTopMarking: ZXYTT*S021B; PowerWise: Y; CompType: MiscPower; DatasheetVersion: Jan-2009; PackageVersion: revA, Oct-2003; PackageReference: SDA10A; PackageDescription: LLP, Plastic, Dual, 3 x 3 x 0.8mm Body, 10 Lead, 0.5mm Pitch, No Pullback; RoHS: Y; PinCount: 10; High-Reliability: Y; ComponentLink1Description: Manufacturer URL; ComponentLink1URL: http://www.national.com/; ComponentLink2Description: LM3678 Datasheet; ComponentLink2URL: http://www.national.com/ds/LM/LM3678.pdf; ComponentLink3Description: LM3678 Web Page; ComponentLink3URL: http://www.national.com/pf/LM/LM3678.html; ComponentLink4Description: SDA10A Package Page; ComponentLink4URL: http://www.national.com/packaging/folders/sda10a.html
footprint SDA10A (SON, 10-Leads, Body 3x3 mm, Pitch 0.5mm, NSC Recommended)
pins: 1 GND (power), 2 GND (power), 3 SW (power), 4 VDD (power), 5 VDD (power), 6 VSELECT (in), 7 PGOOD (oc), 8 PWM (in), 9 EN (in), 10 FB (in), 11 DAP (power)

## LM3678SDE-1.2/NOPB
designator U?
High-Performance, Miniature 1.5A Step-Down DC-DC Converter for Handheld Applications, 10-pin LLP, Pb-Free; PartNumber: LM3678SDE-1.2/NOPB; Manufacturer: National Semiconductor; PackageTopMarking: ZXYTT*S021B; PowerWise: Y; CompType: MiscPower; DatasheetVersion: Jan-2009; PackageVersion: revA, Oct-2003; PackageReference: SDA10A; PackageDescription: LLP, Plastic, Dual, 3 x 3 x 0.8mm Body, 10 Lead, 0.5mm Pitch, No Pullback; RoHS: Y; PinCount: 10; High-Reliability: Y; ComponentLink1Description: Manufacturer URL; ComponentLink1URL: http://www.national.com/; ComponentLink2Description: LM3678 Datasheet; ComponentLink2URL: http://www.national.com/ds/LM/LM3678.pdf; ComponentLink3Description: LM3678 Web Page; ComponentLink3URL: http://www.national.com/pf/LM/LM3678.html; ComponentLink4Description: SDA10A Package Page; ComponentLink4URL: http://www.national.com/packaging/folders/sda10a.html
footprint SDA10A (SON, 10-Leads, Body 3x3 mm, Pitch 0.5mm, NSC Recommended)
pins: 1 GND (power), 2 GND (power), 3 SW (power), 4 VDD (power), 5 VDD (power), 6 VSELECT (in), 7 PGOOD (oc), 8 PWM (in), 9 EN (in), 10 FB (in), 11 DAP (power)

## LM3678SDX-1.2/NOPB
designator U?
High-Performance, Miniature 1.5A Step-Down DC-DC Converter for Handheld Applications, 10-pin LLP, Pb-Free; PartNumber: LM3678SDX-1.2/NOPB; Manufacturer: National Semiconductor; PackageTopMarking: ZXYTT*S021B; PowerWise: Y; CompType: MiscPower; DatasheetVersion: Jan-2009; PackageVersion: revA, Oct-2003; PackageReference: SDA10A; PackageDescription: LLP, Plastic, Dual, 3 x 3 x 0.8mm Body, 10 Lead, 0.5mm Pitch, No Pullback; RoHS: Y; PinCount: 10; High-Reliability: Y; ComponentLink1Description: Manufacturer URL; ComponentLink1URL: http://www.national.com/; ComponentLink2Description: LM3678 Datasheet; ComponentLink2URL: http://www.national.com/ds/LM/LM3678.pdf; ComponentLink3Description: LM3678 Web Page; ComponentLink3URL: http://www.national.com/pf/LM/LM3678.html; ComponentLink4Description: SDA10A Package Page; ComponentLink4URL: http://www.national.com/packaging/folders/sda10a.html
footprint SDA10A (SON, 10-Leads, Body 3x3 mm, Pitch 0.5mm, NSC Recommended)
pins: 1 GND (power), 2 GND (power), 3 SW (power), 4 VDD (power), 5 VDD (power), 6 VSELECT (in), 7 PGOOD (oc), 8 PWM (in), 9 EN (in), 10 FB (in), 11 DAP (power)

## LM3679TL-1.8/NOPB
designator U?
3MHz, 350mA Miniature Step-Down DC-DC Converter for Ultra Low Profile Applications (Height < 0.55mm), 5-pin Micro SMD, Pb-Free; PartNumber: LM3679TL-1.8/NOPB; Manufacturer: National Semiconductor; PackageTopMarking: XV*I F; PowerWise: Y; CompType: MiscPower; DatasheetVersion: Feb-2008; PackageVersion: revC, Feb-2005; PackageReference: TLA05EFA; PackageDescription: Thin Micro SMD, 5 Bump (Large), 0.5mm Pitch; RoHS: Y; PinCount: 5; High-Reliability: Y; ComponentLink1Description: Manufacturer URL; ComponentLink1URL: http://www.national.com/; ComponentLink2Description: LM3679 Datasheet; ComponentLink2URL: http://www.national.com/ds/LM/LM3679.pdf; ComponentLink3Description: LM3679 Web Page; ComponentLink3URL: http://www.national.com/pf/LM/LM3679.html; ComponentLink4Description: TLA05EFA Package Page; ComponentLink4URL: http://www.national.com/packaging/folders/tla05efa.html
footprint TLA05EFA (Micro SMD, 5-Leads, Body 1.49x1.11mm, Pitch 0.5mm, NSC Recommended)
pins: A1 VIN (power), A3 GND (power), B2 SW (power), C1 EN (in), C3 FB (in)

## LM3679TLX-1.8/NOPB
designator U?
3MHz, 350mA Miniature Step-Down DC-DC Converter for Ultra Low Profile Applications (Height < 0.55mm), 5-pin Micro SMD, Pb-Free; PartNumber: LM3679TLX-1.8/NOPB; Manufacturer: National Semiconductor; PackageTopMarking: XV*I F; PowerWise: Y; CompType: MiscPower; DatasheetVersion: Feb-2008; PackageVersion: revC, Feb-2005; PackageReference: TLA05EFA; PackageDescription: Thin Micro SMD, 5 Bump (Large), 0.5mm Pitch; RoHS: Y; PinCount: 5; High-Reliability: Y; ComponentLink1Description: Manufacturer URL; ComponentLink1URL: http://www.national.com/; ComponentLink2Description: LM3679 Datasheet; ComponentLink2URL: http://www.national.com/ds/LM/LM3679.pdf; ComponentLink3Description: LM3679 Web Page; ComponentLink3URL: http://www.national.com/pf/LM/LM3679.html; ComponentLink4Description: TLA05EFA Package Page; ComponentLink4URL: http://www.national.com/packaging/folders/tla05efa.html
footprint TLA05EFA (Micro SMD, 5-Leads, Body 1.49x1.11mm, Pitch 0.5mm, NSC Recommended)
pins: A1 VIN (power), A3 GND (power), B2 SW (power), C1 EN (in), C3 FB (in)

## LM3679UR-1.2/NOPB
designator U?
3MHz, 350mA Miniature Step-Down DC-DC Converter for Ultra Low Profile Applications (Height < 0.55mm), 5-pin Micro SMD, Pb-Free; PartNumber: LM3679UR-1.2/NOPB; Manufacturer: National Semiconductor; PackageTopMarking: XV*I Z; PowerWise: N; CompType: MiscPower; High-Reliability: Y; DatasheetVersion: Feb-2008; PackageVersion: Feb-2008; PackageReference: URA05HHA; PackageDescription: Ultra Thin Micro SMD, 5 Bump (Large), 0.5mm Pitch; RoHS: Y; PinCount: 5; ComponentLink1Description: Manufacturer URL; ComponentLink1URL: http://www.national.com/; ComponentLink2Description: LM3679 Datasheet; ComponentLink2URL: http://www.national.com/ds/LM/LM3679.pdf; ComponentLink3Description: LM3679 Web Page; ComponentLink3URL: http://www.national.com/pf/LM/LM3679.html; ComponentLink4Description: URA05HHA Package Page; ComponentLink4URL: http://www.national.com/packaging/folders/ura05hha.html
footprint URA05HHA (Micro SMD, 5-Leads, Body 1.5x1.13mm, Pitch 0.5mm, NSC Recommended)
pins: A1 VIN (power), A3 GND (power), B2 SW (power), C1 EN (in), C3 FB (in)

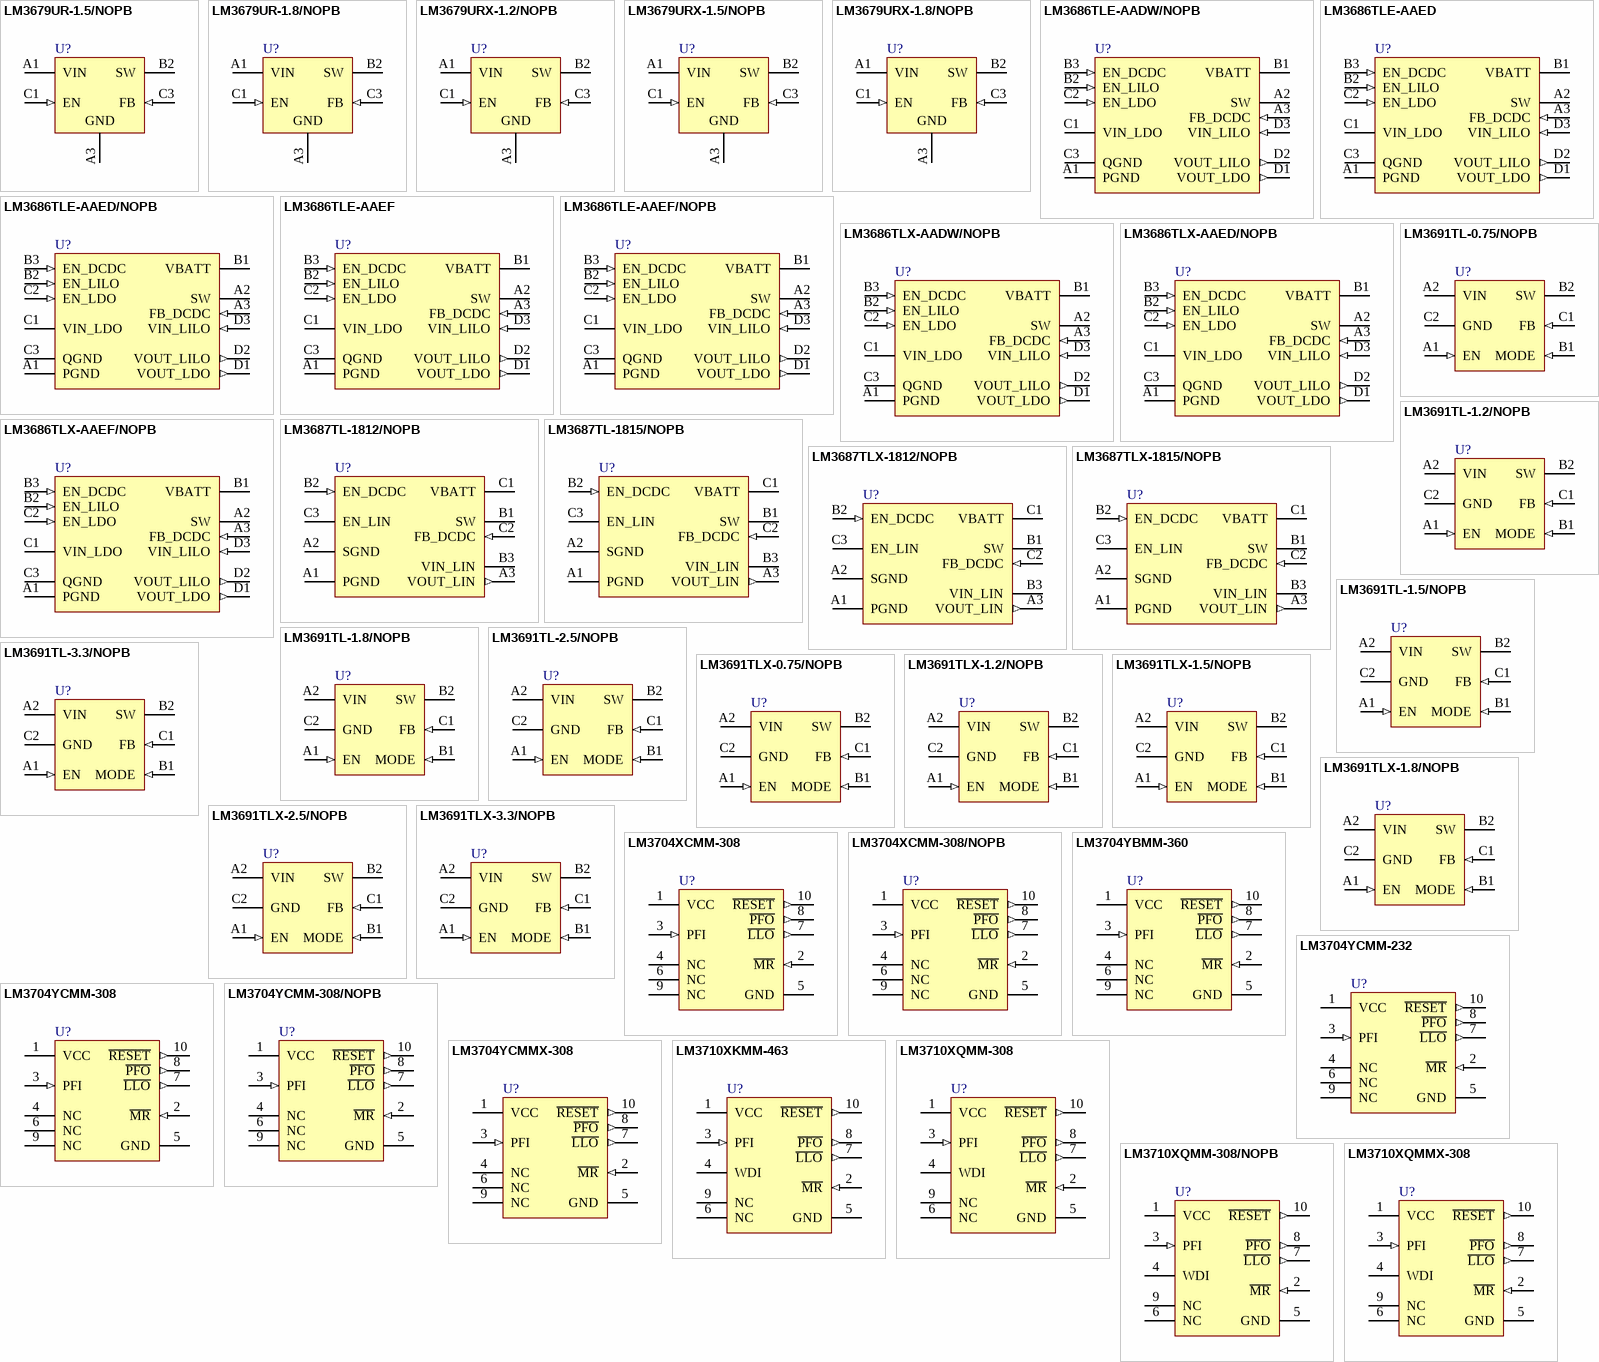
[diagram p23: symbols LM3679UR-1.5/NOPB to LM3710XQMMX-308]

## LM3679UR-1.5/NOPB
designator U?
3MHz, 350mA Miniature Step-Down DC-DC Converter for Ultra Low Profile Applications (Height < 0.55mm), 5-pin Micro SMD, Pb-Free; PartNumber: LM3679UR-1.5/NOPB; Manufacturer: National Semiconductor; PackageTopMarking: XV*I 4; PowerWise: N; CompType: MiscPower; High-Reliability: Y; DatasheetVersion: Feb-2008; PackageVersion: Feb-2008; PackageReference: URA05HHA; PackageDescription: Ultra Thin Micro SMD, 5 Bump (Large), 0.5mm Pitch; RoHS: Y; PinCount: 5; ComponentLink1Description: Manufacturer URL; ComponentLink1URL: http://www.national.com/; ComponentLink2Description: LM3679 Datasheet; ComponentLink2URL: http://www.national.com/ds/LM/LM3679.pdf; ComponentLink3Description: LM3679 Web Page; ComponentLink3URL: http://www.national.com/pf/LM/LM3679.html; ComponentLink4Description: URA05HHA Package Page; ComponentLink4URL: http://www.national.com/packaging/folders/ura05hha.html
footprint URA05HHA (Micro SMD, 5-Leads, Body 1.5x1.13mm, Pitch 0.5mm, NSC Recommended)
pins: A1 VIN (power), A3 GND (power), B2 SW (power), C1 EN (in), C3 FB (in)

## LM3679UR-1.8/NOPB
designator U?
3MHz, 350mA Miniature Step-Down DC-DC Converter for Ultra Low Profile Applications (Height < 0.55mm), 5-pin Micro SMD, Pb-Free; PartNumber: LM3679UR-1.8/NOPB; Manufacturer: National Semiconductor; PackageTopMarking: XV*I R; PowerWise: Y; CompType: MiscPower; DatasheetVersion: Feb-2008; PackageVersion: Feb-2008; PackageReference: URA05HHA; PackageDescription: Ultra Thin Micro SMD, 5 Bump (Large), 0.5mm Pitch; RoHS: Y; PinCount: 5; High-Reliability: Y; ComponentLink1Description: Manufacturer URL; ComponentLink1URL: http://www.national.com/; ComponentLink2Description: LM3679 Datasheet; ComponentLink2URL: http://www.national.com/ds/LM/LM3679.pdf; ComponentLink3Description: LM3679 Web Page; ComponentLink3URL: http://www.national.com/pf/LM/LM3679.html; ComponentLink4Description: URA05HHA Package Page; ComponentLink4URL: http://www.national.com/packaging/folders/ura05hha.html
footprint URA05HHA (Micro SMD, 5-Leads, Body 1.5x1.13mm, Pitch 0.5mm, NSC Recommended)
pins: A1 VIN (power), A3 GND (power), B2 SW (power), C1 EN (in), C3 FB (in)

## LM3679URX-1.2/NOPB
designator U?
3MHz, 350mA Miniature Step-Down DC-DC Converter for Ultra Low Profile Applications (Height < 0.55mm), 5-pin Micro SMD, Pb-Free; PartNumber: LM3679URX-1.2/NOPB; Manufacturer: National Semiconductor; PackageTopMarking: XV*I Z; PowerWise: N; CompType: MiscPower; High-Reliability: Y; DatasheetVersion: Feb-2008; PackageVersion: Feb-2008; PackageReference: URA05HHA; PackageDescription: Ultra Thin Micro SMD, 5 Bump (Large), 0.5mm Pitch; RoHS: Y; PinCount: 5; ComponentLink1Description: Manufacturer URL; ComponentLink1URL: http://www.national.com/; ComponentLink2Description: LM3679 Datasheet; ComponentLink2URL: http://www.national.com/ds/LM/LM3679.pdf; ComponentLink3Description: LM3679 Web Page; ComponentLink3URL: http://www.national.com/pf/LM/LM3679.html; ComponentLink4Description: URA05HHA Package Page; ComponentLink4URL: http://www.national.com/packaging/folders/ura05hha.html
footprint URA05HHA (Micro SMD, 5-Leads, Body 1.5x1.13mm, Pitch 0.5mm, NSC Recommended)
pins: A1 VIN (power), A3 GND (power), B2 SW (power), C1 EN (in), C3 FB (in)